# Altium footprint library PCB - CONNECTOR - SAMTEC IPL1-104-01-L-S-RA-K.PCBLIB: 1 footprints
Each footprint in its own frame and in the unit in brackets; x right, y up, seen from the top. Pads: shape width x height; smd on the part's side, far side on the other; paste and mask are expansions set on the pad; w line width, h text height; cw(c..) or ccw(c..) is an arc to the next point about the centre after c.
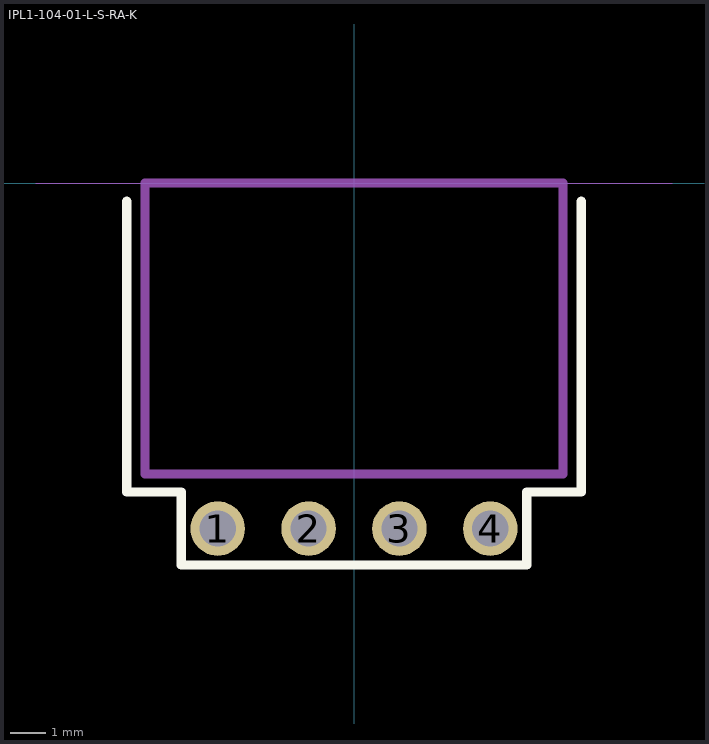
[diagram p0: the footprint, top view; thin cyan lines are the x and y axes]

## IPL1-104-01-L-S-RA-K [mil]
pads (4):
  round 60 hole 40 mask+3: 1(-150,-380) 2(-50,-380) 3(50,-380) 4(150,-380)
Top Overlay:
  lines w10: -250,-20 -250,-340 -190,-340 -190,-420 190,-420 190,-340 250,-340 250,-20
M5 Assembly Top:
  lines w10: -230,-320 230,-320 230,0 -230,0 -230,-320
  text ".Designator" at -118.11,-240.16 h60
Mechanical 16:
  lines w0.01: -350,0 350,0
3D body "IPL1-104-01-L-S-RA-K.stp": height 260, standoff -85, extent -229.99,-392.49 230.01,0.01